# EAGLE library part LQ-BTM2540 (library prj_snowmaker)
特制外置SMA PEX天线 蓝牙4.0 BLE CC2540 2541无线串口透传模块 淘宝链接:https://item.taobao.com/item.htm?spm=a230r.1.14.46.76bf523Ulb2d3&id=526084133471 规格书：外置天线 CC254x蓝牙模块规格书_Pex_AT【蓝嵌科技】_v1_2015-02-01.pdf 配套天线：https://item.taobao.com/item.htm?id=526041955450 阿里旺旺：ecydany 阿里巴巴 <https://detail.1688.com/offer/42315301107.html?spm=b26110380.sw1688.mof001.1.VkrdQI>
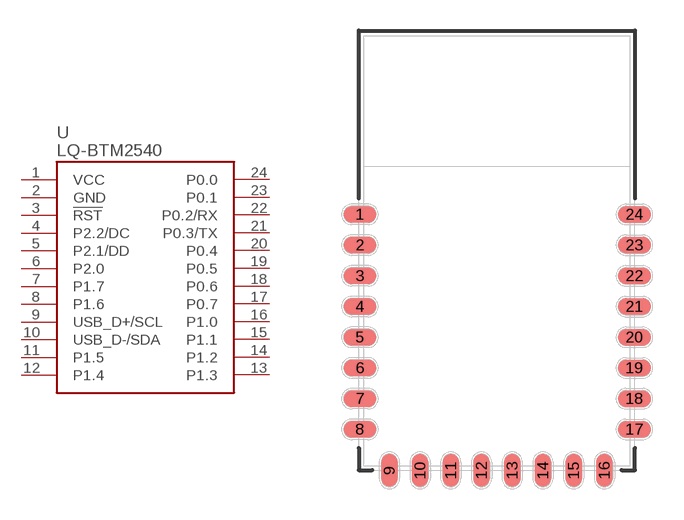
[diagram p10: symbol with the pads of LQ-BTM2540; footprint LQ-BTM2540]

Designator prefix U

## LQ-BTM2540  [LQ-BTM2540]
1  VCC  pwr
2  GND  pwr
3  !RST  in
4  P2.2/DC
5  P2.1/DD
6  P2.0
7  P1.7
8  P1.6
9  USB_D+/SCL
10  USB_D-/SDA
11  P1.5
12  P1.4
13  P1.3
14  P1.2
15  P1.1
16  P1.0
17  P0.7
18  P0.6
19  P0.5
20  P0.4
21  P0.3/TX
22  P0.2/RX
23  P0.1
24  P0.0

## Footprint LQ-BTM2540 (pad centres in mm)
https://item.taobao.com/item.htm?spm=a230r.1.14.46.76bf523Ulb2d3&id=526084133471
smd 1.6 x 0.8: 1 -6.687,1.758; 2 -6.687,0.258; 3 -6.687,-1.242; 4 -6.687,-2.743; 5 -6.687,-4.242; 6 -6.687,-5.742; 7 -6.687,-7.242; 8 -6.687,-8.742; 17 6.713,-8.742; 18 6.713,-7.242; 19 6.713,-5.742; 20 6.713,-4.242; 21 6.713,-2.743; 22 6.713,-1.242; 23 6.713,0.258; 24 6.713,1.758
smd 0.8 x 1.6: 9 -5.249,-10.742; 10 -3.749,-10.742; 11 -2.249,-10.742; 12 -0.749,-10.742; 13 0.751,-10.742; 14 2.251,-10.742; 15 3.751,-10.742; 16 5.251,-10.742